# EAGLE library part LTC4316 (library Analog Devices)
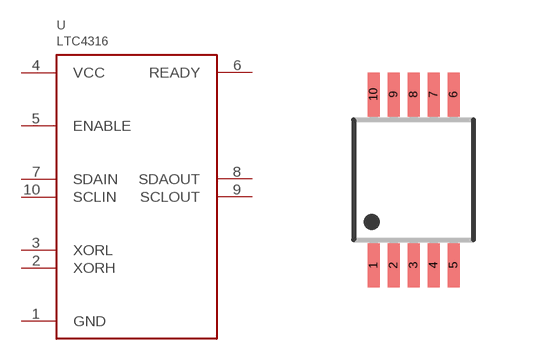
[diagram p8: symbol with the pads of MSOP10; footprint MSOP10]

Designator prefix U

## LTC4316  [MSOP10]
1  GND
2  XORH
3  XORL
4  VCC
5  ENABLE
6  READY
7  SDAIN
8  SDAOUT
9  SCLOUT
10  SCLIN

## Footprint MSOP10 (pad centres in mm)
smd 0.3 x 1.1: 1 -1,-2.14; 2 -0.5,-2.14; 3 0,-2.14; 4 0.5,-2.14; 5 1,-2.14; 6 1,2.14; 7 0.5,2.14; 8 0,2.14; 9 -0.5,2.14; 10 -1,2.14